# EAGLE library part HSEC8-120-01-XX-DV-A (library HSEC8-1xx-01-XX-DV-A)
0.8MM HIGH SPEED EDGE CARD ASSEMBLY. MANUFACTURER:SAMTEC.
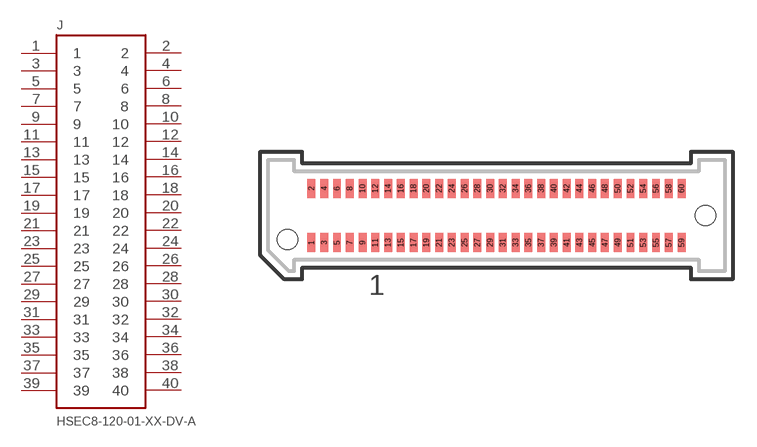
[diagram p0: symbol with the pads of HSEC8-130-01-XX-DV-A; footprint HSEC8-130-01-XX-DV-A]

Designator prefix J

## HSEC8-120-01-XX-DV-A  [HSEC8-130-01-XX-DV-A]
1  1
2  2
3  3
4  4
5  5
6  6
7  7
8  8
9  9
10  10
11  11
12  12
13  13
14  14
15  15
16  16
17  17
18  18
19  19
20  20
21  21
22  22
23  23
24  24
25  25
26  26
27  27
28  28
29  29
30  30
31  31
32  32
33  33
34  34
35  35
36  36
37  37
38  38
39  39
40  40

## Footprint HSEC8-130-01-XX-DV-A (pad centres in mm)
0.8MM HIGH SPEED EDGE CARD ASSEMBLY. MANUFACTURER:SAMTEC.
smd 0.5 x 1.2: 1 -11.6,-1.7; 2 -11.6,1.7; 3 -10.8,-1.7; 4 -10.8,1.7; 5 -10,-1.7; 6 -10,1.7; 7 -9.2,-1.7; 8 -9.2,1.7; 9 -8.4,-1.7; 10 -8.4,1.7; 11 -7.6,-1.7; 12 -7.6,1.7; 13 -6.8,-1.7; 14 -6.8,1.7; 15 -6,-1.7; 16 -6,1.7; 17 -5.2,-1.7; 18 -5.2,1.7; 19 -4.4,-1.7; 20 -4.4,1.7; 21 -3.6,-1.7; 22 -3.6,1.7; 23 -2.8,-1.7; 24 -2.8,1.7; 25 -2,-1.7; 26 -2,1.7; 27 -1.2,-1.7; 28 -1.2,1.7; 29 -0.4,-1.7; 30 -0.4,1.7; 31 0.4,-1.7; 32 0.4,1.7; 33 1.2,-1.7; 34 1.2,1.7; 35 2,-1.7; 36 2,1.7; 37 2.8,-1.7; 38 2.8,1.7; 39 3.6,-1.7; 40 3.6,1.7; 41 4.4,-1.7; 42 4.4,1.7; 43 5.2,-1.7; 44 5.2,1.7; 45 6,-1.7; 46 6,1.7; 47 6.8,-1.7; 48 6.8,1.7; 49 7.6,-1.7; 50 7.6,1.7; 51 8.4,-1.7; 52 8.4,1.7; 53 9.2,-1.7; 54 9.2,1.7; 55 10,-1.7; 56 10,1.7; 57 10.8,-1.7; 58 10.8,1.7; 59 11.6,-1.7; 60 11.6,1.7
hole 1.27 at -13.1,-1.5
hole 1.27 at 13.1,0